# EAGLE library part SFV12R-1STE1HLF (library KW2)
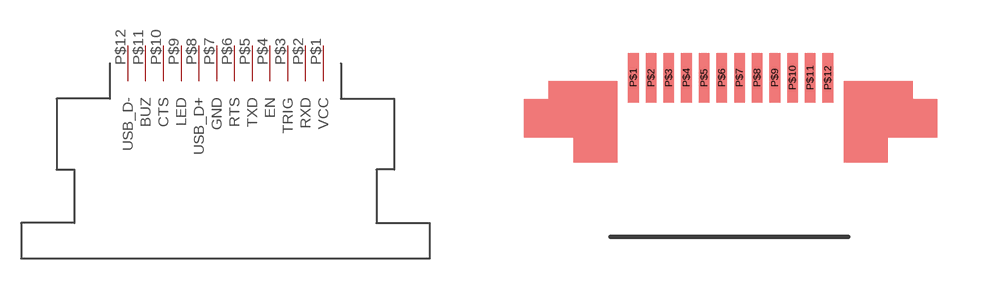
[diagram p13: symbol with the pads of SFV12R-1STE1HLF; footprint SFV12R-1STE1HLF]

Designator prefix -

## SFV12R-1STE1HLF  [SFV12R-1STE1HLF]
P$1  VCC
P$2  RXD
P$3  TRIG
P$4  EN
P$5  TXD
P$6  RTS
P$7  GND
P$8  USB_D+
P$9  LED
P$10  CTS
P$11  BUZ
P$12  USB_D-

## Footprint SFV12R-1STE1HLF (pad centres in mm)
smd 0.3 x 1.4: P$1 -2.75,1.27; P$2 -2.25,1.27; P$3 -1.75,1.27; P$4 -1.25,1.27; P$5 -0.75,1.27; P$6 -0.25,1.27; P$7 0.25,1.27; P$8 0.75,1.27; P$9 1.25,1.27; P$10 1.75,1.27; P$11 2.25,1.27; P$12 2.75,1.27